# EAGLE library part 942H (library myparts)
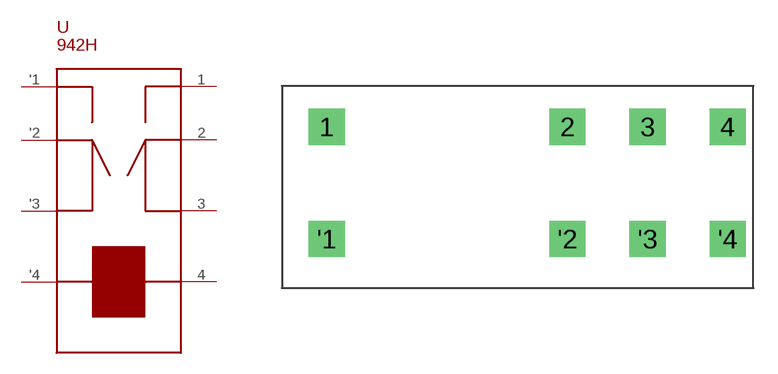
[diagram p17: symbol with the pads of 942H; footprint 942H]

Designator prefix -

## 942H  [942H]
1  1
2  2
3  3
4  4
'1  '1
'2  '2
'3  '3
'4  '4

## Footprint 942H (pad centres in mm)
drill 1.5 square: 1 -11.9,3.75; 2 3.1,3.75; 3 8.1,3.75; 4 13.1,3.75; '1 -11.9,-3.25; '2 3.1,-3.25; '3 8.1,-3.25; '4 13.1,-3.25